# Altium integrated library E-component.IntLib: 17 symbols
Pins are listed as number, name and electrical type; pins without a type are passive.

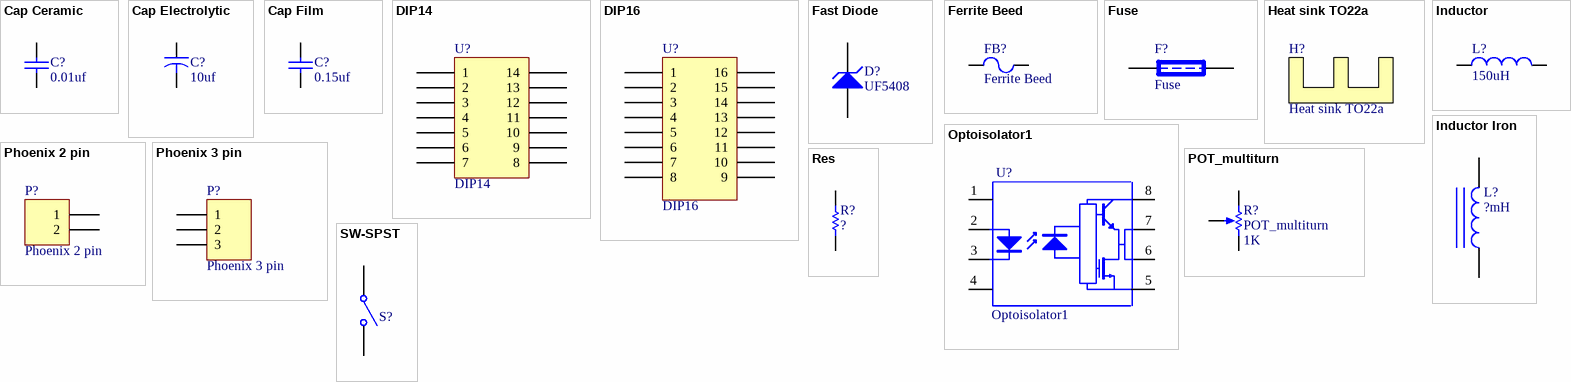
[diagram p0: symbols Cap Ceramic to SW-SPST]

## Cap Ceramic
designator C?, comment 0.01uf
Capacitor; Published: 8-Jun-2000; LatestRevisionDate: 17-Jul-2002; LatestRevisionNote: Re-released for DXP Platform.; PackageReference: RAD-0.3; Publisher: Altium Limited; PackageDescription: Radial Cap, Thru-Hole; 2 Leads; 0.3 in Pin Spacing; Value: 0.01uf
footprint Cap_ceramic
simulation model CAP (Capacitor)
signal-integrity model Cap
pins: 1, 2

## Cap Electrolytic
designator C?, comment 10uf
Electrolytic Capacitor (Radial); Published: 23-Sep-2002; PackageReference: CAPR5-4X5; Publisher: Altium Limited; PackageDescription: Capacitor; 2 Leads; Value: 10uf
simulation model CAP (Capacitor)
signal-integrity model Cap
footprint CAPPR7.5-18x35.5 (Capacitor, Electrolytic, Radial; Body 18 x 35.5 mm (Dia.xH typ); Pin Spacing 7.5 mm (typ))
footprint CAPPRS10-30x35 (Capacitor, Electrolytic, Radial, Snap-In Pins; Body 30 x 35 mm (Dia.xH typ); Pin Spacing 10 mm (typ))
footprint CAPPR5-8x11.5 (Capacitor, Electrolytic, Radial; Body 8 x 11.5 mm (Dia.xH typ); Pin Spacing 5 mm (typ))
footprint CAPPR5-5x11 (Capacitor, Electrolytic, Radial; Body 5 x 11 mm (Dia.xH typ); Pin Spacing 5 mm (typ))
footprint CAPPR8.5-SMD
pins: 1, 2

## Cap Film
designator C?, comment 0.15uf
Polypropylene Film Capacitor; Published: 8-Jun-2000; LatestRevisionDate: 17-Jul-2002; LatestRevisionNote: Re-released for DXP Platform.; PackageReference: RAD-0.3; Publisher: Altium Limited; PackageDescription: Radial Cap, Thru-Hole; 2 Leads; 0.3 in Pin Spacing; Value: 0.15uf
footprint WIMA MKS (Diode, Axial; Body 9.5 x 5.6 mm (LxDia. max), Lead Dia. 1.32 mm (max))
simulation model CAP (Capacitor)
signal-integrity model Cap
footprint WIMA MKS - mini (Diode, Axial; Body 9.5 x 5.6 mm (LxDia. max), Lead Dia. 1.32 mm (max))
pins: 1, 2

## DIP14
designator U?
DIP 14
footprint DIP14
pins: 1, 2, 3, 4, 5, 6, 7, 8, 9, 10, 11, 12, 13, 14

## DIP16
designator U?
DIP 16
footprint DIP16 (DIP, 16-Leads, Row Spacing 7.62mm, Pitch 2.54mm, Body 19.6x6.3mm)
pins: 1, 2, 3, 4, 5, 6, 7, 8, 9, 10, 11, 12, 13, 14, 15, 16

## Fast Diode
designator D?, comment UF5408
Diode; Published: 8-Jun-2000; LatestRevisionDate: 17-Jul-2002; LatestRevisionNote: Re-released for DXP Platform.; PackageReference: DIODE-0.7; Publisher: Altium Limited; PackageDescription: Diode, Thru-Hole; 2 Leads; 0.7 in Pin Spacing
footprint DO-201AD (Diode, Axial; Body 9.5 x 5.6 mm (LxDia. max), Lead Dia. 1.32 mm (max))
simulation model ZENER (Diode)
signal-integrity model D Zener
pins: 1 A, 2 K

## Ferrite Beed
designator FB?
Code_IEC: 1005; Published: 8-Jun-2000; LatestRevisionDate: 17-Jul-2002; LatestRevisionNote: Re-released for DXP Platform.; PackageReference: 0402-A; Publisher: Altium Limited; Code_JEITA: 0402
footprint AXIAL-0.3 (Axial Device, Thru-Hole; 2 Leads; 0.3 in Pin Spacing)
pins: 1, 2

## Fuse
designator F?
Published: 8-Jun-2000; LatestRevisionDate: 17-Jul-2002; LatestRevisionNote: Re-released for DXP Platform.; PackageReference: PIN-W2/E2.8; Publisher: Altium Limited
footprint FUSE
footprint FUSE
footprint fuse new
pins: 1, 2

## Heat sink TO22a
designator H?
Heat sink for TO22
footprint My_Heat_sink_TO22a

## Inductor
designator L?, comment 150uH
Inductor; Code_IEC: 1005; Published: 8-Jun-2000; LatestRevisionDate: 17-Jul-2002; LatestRevisionNote: Re-released for DXP Platform.; PackageReference: 0402-A; Publisher: Altium Limited; Code_JEITA: 0402; Value: 150uH
footprint INDUCTOR_SMD
footprint mh2
pins: 1, 2

## Inductor Iron
designator L?, comment ?mH
Magnetic-Core Inductor; Published: 24-Mar-1999; LatestRevisionDate: 17-Jul-2002; LatestRevisionNote: Re-released for DXP Platform.; PackageReference: AXIAL-0.9; Publisher: Altium Limited; PackageDescription: Axial Device, Thru-Hole; 2 Leads; 0.9 in Pin Spacing; Value: ?mH
footprint Toroidal coil
simulation model INDUCTOR (Inductor)
signal-integrity model Inductor Iron
footprint INDUCTOR_SMD
pins: 1, 2

## Optoisolator1
designator U?
4-Pin Phototransistor Optocoupler; Published: 24-Mar-1999; LatestRevisionDate: 04-Mar-2005; LatestRevisionNote: Sch pins 3 & 4 Swapped.; DatasheetVersion: Nov-2003; PackageReference: DIP-4; Publisher: Altium Limited
footprint DIP-8 (DIP; 8 Leads; Row Spacing 7.62 mm; Pitch 2.54 mm)
pins: 1 1- NC, 2 2-ANODE "Anode", 3 3-CATHODE "Cathode", 4, 5 5-VEE, 6 6-VO "Emitter", 7 7-VO "Collector", 8 8-VCC

## Phoenix 2 pin
designator P?
Header, 2-Pin; LatestRevisionDate: 17-Jul-2002; LatestRevisionNote: Re-released for DXP Platform.; Publisher: Altium Limited
footprint Phoenix 2 pin (MSTB 2,5/2-G)
signal-integrity model Connector
pins: 1, 2

## Phoenix 3 pin
designator P?
Header, 3-Pin; LatestRevisionDate: 17-Jul-2002; LatestRevisionNote: Re-released for DXP Platform.; Publisher: Altium Limited
footprint Phoenix 3
signal-integrity model Connector
pins: 1, 2, 3

## POT_multiturn
designator R?  value 1K
Potentiometer; Sim Note: Enter the Resistance value and the set point into parameter fields.; Set Position: 0.5; Published: 8-Jun-2000; LatestRevisionDate: 17-Jul-2002; LatestRevisionNote: Re-released for DXP Platform.; PackageReference: VR5; Publisher: Altium Limited; PackageDescription: Variable Resistor, Thru-Hole; 3 Leads
footprint Pot-multirurn (multirurn)
simulation model POT (Potentiometer)
pins: 1 TOP, 2 TAP, 3 BOT
1 alternate drawing of the same symbol

## Res
designator R?, comment ?
Resistor; Published: 8-Jun-2000; LatestRevisionDate: 17-Jul-2002; LatestRevisionNote: Re-released for DXP Platform.; PackageReference: AXIAL-0.3; Publisher: Altium Limited; PackageDescription: Axial Device, Thru-Hole; 2 Leads; 0.3 in Pin Spacing; Value: ?
footprint AXIAL-0.8 (Axial Device, Thru-Hole; 2 Leads; 0.8 in Pin Spacing)
simulation model RESISTOR (Resistor)
signal-integrity model Res
pins: 1, 2

## SW-SPST
designator S?  (value not drawn)
Single-Pole, Single-Throw Switch; Published: 24-Mar-1999; Revision: July-2002: Re-released for DXP Platform.; Publisher: Altium Limited
footprint KEY
footprint DIP-1 (DIP; 8 Leads; Row Spacing 7.62 mm; Pitch 2.54 mm)
footprint pushbutton_smd
footprint PUSH-BUT-SMD
pins: 1 COMMON, 2 NO